# EAGLE library part 12X2PIN-2MM-HEADER (library vinorodrigues-custom-eagle)
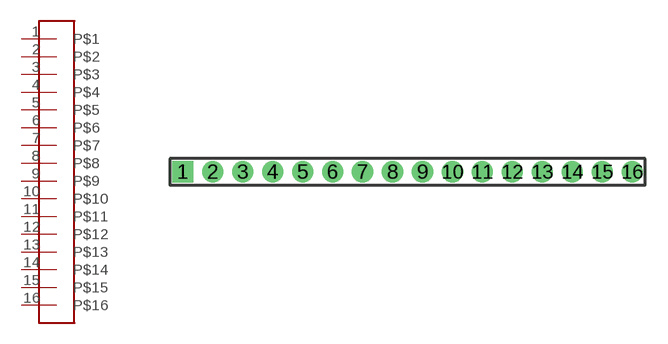
[diagram p9: symbol with the pads of 16PIN-2MM-HEADER; footprint 16PIN-2MM-HEADER]

Designator prefix -

## 12X2PIN-2MM-HEADER  [16PIN-2MM-HEADER]
1  P$1
2  P$2
3  P$3
4  P$4
5  P$5
6  P$6
7  P$7
8  P$8
9  P$9
10  P$10
11  P$11
12  P$12
13  P$13
14  P$14
15  P$15
16  P$16

## Footprint 16PIN-2MM-HEADER (pad centres in mm)
2.00mm Pitch Milli-Grid™ Header, Through Hole, Vertical, 32 Circuits, 0.38µm Gold (Au) Selective Plating, Pocket Tray Packaging, Lead-Free Datasheet <http://www.molex.com/pdm_docs/sd/877583216_sd.pdf>
drill 0.9 pad 1.27 square: 1 -0.014,0.016
drill 0.9 pad 1.27: 2 1.986,0.016; 3 3.986,0.016; 4 5.986,0.016; 5 7.986,0.016; 6 9.986,0.016; 7 11.986,0.016; 8 13.986,0.016; 9 15.986,0.016; 10 17.986,0.016; 11 19.986,0.016; 12 21.986,0.016; 13 23.986,0.016; 14 25.986,0.016; 15 27.986,0.016; 16 29.986,0.016